# Altium schematic symbol library EL-sense_Mounting_hole.SchLib: 1 symbol
Pins are listed as number, name and electrical type; pins without a type are passive.

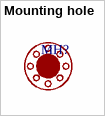
[diagram p0: symbol Mounting hole]

## Mounting hole
designator MH?  (no BOM)
pins: MH